# Altium footprint library Connectors Power Amass.PcbLib: 2 footprints
Each footprint in its own frame and in the unit in brackets; x right, y up, seen from the top. Pads: shape width x height; smd on the part's side, far side on the other; paste and mask are expansions set on the pad; w line width, h text height; cw(c..) or ccw(c..) is an arc to the next point about the centre after c.
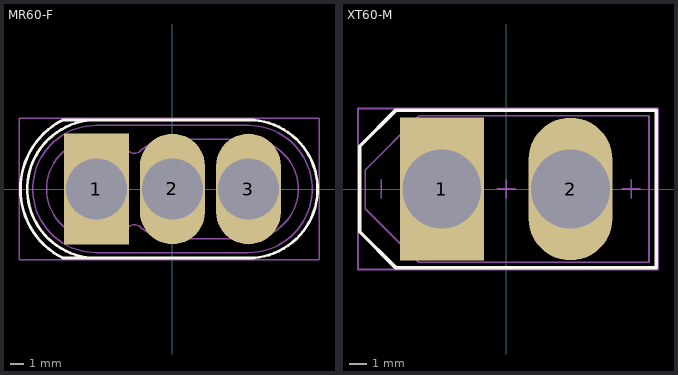
[diagram p0: the footprints below, top view; thin cyan lines are the x and y axes]

## MR60-F [mm]
height 14
pads (3):
  rect 4.7x8 hole 4.4: 1(-5.5,0)
  oval 4.7x8 hole 4.4: 2(0,0) 3(5.5,0)
Top Overlay:
  lines w0.2: -7.955,4.983 ccw(c-5.4,0) -7.945,-4.988 ; -7.9,-5 -5.5,-5 ; -7.9,5 -5.5,5 ; -5.5,-5 cw(c-5.5,0) -5.5,5 ; -5.5,-5 5.5,-5 ccw(c5.5,0) 5.5,5 -5.5,5
Top Package:
  circle w0.1: c5.5,0 r2.15
  circle w0.1: c0.016,-0.021 r2.15
  circle w0.1: c-5.5,0 r2.15
  lines w0.1: -7.3,0 cw(c-5.5,0) -3.7,0 ; -3.186,-2.758 cw(c-5.5,0) -3.186,2.758 ; -3.162,-2.737 cw(c-2.75,-3.24) -2.338,-2.737 ; -3.162,2.737 ccw(c-2.75,3.24) -2.338,2.737 ; -2.314,-2.758 ccw(c0,0) 0,-3.6 5.5,-3.6 ccw(c5.5,0) 5.5,3.6 0,3.6 ccw(c0,0) -2.314,2.758 ; -1.8,0 cw(c0,0) 1.8,0 ; 3.7,0 cw(c5.5,0) 7.3,0 ; -5.5,-4.6 cw(c-5.5,0) -5.5,4.6 5.5,4.6 cw(c5.5,0) 5.5,-4.6 -5.5,-4.6
Top Comment:
  text ".Comment" at -4.257,6.022 h3
Top Designator:
  text ".Designator" at -5.161,6.3 h3
Top Border:
  lines w0.1: -0.5,0 0.5,0 ; 0,-0.5 0,0.5 ; -11.1,-5.1 10.6,-5.1 10.6,5.1 -11.1,5.1 -11.1,-5.1
3D body "Amass MR60-F.step": height 13.5, standoff -3.7, extent -10.1,-4.6 10.1,4.6

## XT60-M [mm]
height 16
pads (2):
  rect 4.7x8 hole 4.4: 1(-3.6,0)
  oval 4.7x8 hole 4.4: 2(3.6,0)
Top Overlay:
  lines w0.2: -8.2,-2.4 -8.2,2.4 -6.2,4.4 8.4,4.4 8.4,-4.4 -6.2,-4.4 -8.2,-2.4
Top Package:
  circle w0.1: c3.6,0 r2.15
  circle w0.1: c-3.6,0 r2.15
  lines w0.1: -7,-0.5 -7,0.5 ; -3.6,-1.8 ccw(c-3.6,0) -3.6,1.8 ; 3.6,-1.8 cw(c3.6,0) 3.6,1.8 ; 6.5,0 7.5,0 ; 7,-0.5 7,0.5 ; -7.9,-1.1 -7.9,1.065 -4.865,4.1 8,4.1 8,-4.1 -4.9,-4.1 -7.9,-1.1
Top Comment:
  text ".Comment" at -4.257,5.022 h3
Top Designator:
  text ".Designator" at -5.161,5.3 h3
Top Border:
  lines w0.1: -0.5,0 0.5,0 ; 0,-0.5 0,0.5 ; -8.3,-4.5 8.5,-4.5 8.5,4.5 -8.3,4.5 -8.3,-4.5
3D body "Amass TX60-M.STEP": height 16, standoff -3.98, extent -7.963,-4.066 7.972,4.062